# Altium footprint library altium_footprint.PcbLib: 36 footprints (part 3 of 3)
Each footprint in its own frame and in the unit in brackets; x right, y up, seen from the top. Pads: shape width x height; smd on the part's side, far side on the other; paste and mask are expansions set on the pad; w line width, h text height; cw(c..) or ccw(c..) is an arc to the next point about the centre after c.
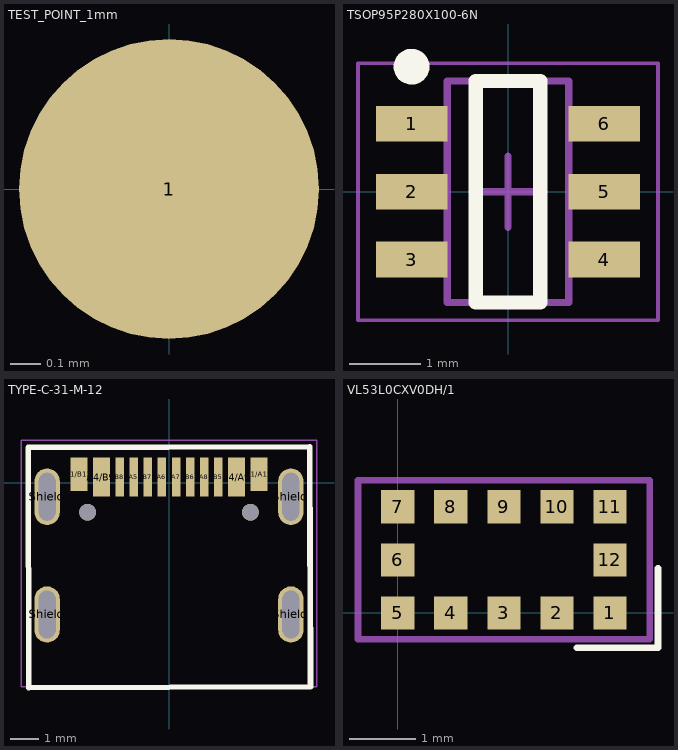
[diagram p2: the footprints below, top view; thin cyan lines are the x and y axes]

## TEST_POINT_1mm [mm]
pads (1):
  round 1 smd: 1(0,0)

## TSOP95P280X100-6N [mm] "TSOP, 6-Leads, Body 2.90x1.60mm, Pitch 0.95mm, IPC Medium Density"
height 1
pads (6):
  rect 1x0.5 smd: 1(-1.35,0.95) 2(-1.35,0) 3(-1.35,-0.95) 4(1.35,-0.95) 5(1.35,0) 6(1.35,0.95)
Top Overlay:
  circle w0.25: c-1.35,1.75 r0.125
  lines w0.2: -0.45,-1.55 0.45,-1.55 0.45,1.55 -0.45,1.55 -0.45,-1.55
Top Assembly:
  lines w0.1: -0.85,-1.55 0.85,-1.55 0.85,1.55 -0.85,1.55 -0.85,-1.55
Top Courtyard:
  lines w0.05: -2.1,-1.8 2.1,-1.8 2.1,1.8 -2.1,1.8 -2.1,-1.8
  lines w0.1: -0.5,0 0.5,0 ; 0,-0.5 0,0.5
3D body: height 1, standoff 0.1, extent -0.85,-1.55 0.85,1.55

## TYPE-C-31-M-12 [mm] "TYPE-C-31-M-12"
pads (18):
  rect 0.6x1.2 smd: A1/B12(-3.2,0.3) B1/A12(3.2,0.3)
  rect 0.6x1.4 smd: A4/B9(-2.4,0.2) B4/A9(2.4,0.2)
  rect 0.3x1.4 smd: A5(-1.25,0.2) A6(-0.25,0.2) A7(0.25,0.2) A8(1.25,0.2) B5(1.75,0.2) B6(0.75,0.2) B7(-0.75,0.2) B8(-1.75,0.2)
  round 0.6 hole 0.6 unplated paste-2539.97: None(-2.89,-1.05) None(2.89,-1.05)
  rrect100% 0.9x2 hole 0.6 slot 1.7 at 90 deg unplated paste-2539.97: Shield(-4.325,-4.68) Shield(-4.325,-0.5) Shield(4.325,-4.68) Shield(4.325,-0.5)
Top Overlay:
  lines w0.2: -5,1.25 5,1.275 5.021,-7.25 -4.979,-7.275 -5,1.25
Top Assembly:
  lines w0.1: -5,1.25 5,1.275 5.021,-7.25 -4.979,-7.275 -5,1.25
Top Courtyard:
  lines w0.05: -5.25,-7.25 5.25,-7.25 5.25,1.5 -5.25,1.5 -5.25,-7.25
3D body "HRO_TYPE-C-31-M-12.step": height 3.22, standoff -0.98, extent -4.475,-7.3 4.475,0.6

## VL53L0CXV0DH/1 [mm] "VL53L0CXV0DH/1"
pads (12):
  rect 0.5x0.5 smd: 1(3.2,0) 2(2.4,0) 3(1.6,0) 4(0.8,0) 5(0,0) 6(0,0.8) 7(0,1.6) 8(0.8,1.6) 9(1.6,1.6) 10(2.4,1.6) 11(3.2,1.6) 12(3.2,0.8)
Top Overlay:
  lines w0.1: 2.7,-0.525 3.925,-0.525 3.925,0.675
Top Assembly:
  lines w0.1: -0.6,-0.4 3.8,-0.4 3.8,2 -0.6,2 -0.6,-0.4
Top Courtyard:
  lines w0.05: -0.6,-0.4 3.8,-0.4 3.8,2 -0.6,2 -0.6,-0.4
3D body "VL53L0X.step": height 1.02, standoff 0.01, extent -0.6,-0.4 3.8,2